# EAGLE library part 7-5530843-0 (library 7-5530843-0)
Standard Edge II Series, Female Edge Conn, Mount, 31(Dual)Way, 2 Row, 2.54mm Pitch
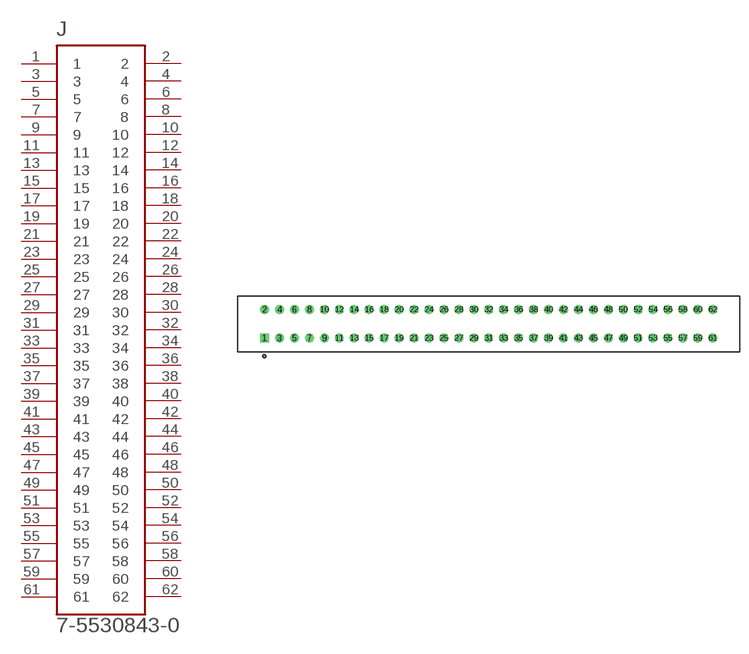
[diagram p0: symbol with the pads of TE_7-5530843-0; footprint TE_7-5530843-0]

Designator prefix J

## 7-5530843-0 (Comment: 7-5530843-0)  [TE_7-5530843-0]
1  1  pas
2  2  pas
3  3  pas
4  4  pas
5  5  pas
6  6  pas
7  7  pas
8  8  pas
9  9  pas
10  10  pas
11  11  pas
12  12  pas
13  13  pas
14  14  pas
15  15  pas
16  16  pas
17  17  pas
18  18  pas
19  19  pas
20  20  pas
21  21  pas
22  22  pas
23  23  pas
24  24  pas
25  25  pas
26  26  pas
27  27  pas
28  28  pas
29  29  pas
30  30  pas
31  31  pas
32  32  pas
33  33  pas
34  34  pas
35  35  pas
36  36  pas
37  37  pas
38  38  pas
39  39  pas
40  40  pas
41  41  pas
42  42  pas
43  43  pas
44  44  pas
45  45  pas
46  46  pas
47  47  pas
48  48  pas
49  49  pas
50  50  pas
51  51  pas
52  52  pas
53  53  pas
54  54  pas
55  55  pas
56  56  pas
57  57  pas
58  58  pas
59  59  pas
60  60  pas
61  61  pas
62  62  pas

## Footprint TE_7-5530843-0 (pad centres in mm)
drill 1.016 square: 1 -38.1,-2.426
drill 1.016: 2 -38.1,2.426; 3 -35.56,-2.426; 4 -35.56,2.426; 5 -33.02,-2.426; 6 -33.02,2.426; 7 -30.48,-2.426; 8 -30.48,2.426; 9 -27.94,-2.426; 10 -27.94,2.426; 11 -25.4,-2.426; 12 -25.4,2.426; 13 -22.86,-2.426; 14 -22.86,2.426; 15 -20.32,-2.426; 16 -20.32,2.426; 17 -17.78,-2.426; 18 -17.78,2.426; 19 -15.24,-2.426; 20 -15.24,2.426; 21 -12.7,-2.426; 22 -12.7,2.426; 23 -10.16,-2.426; 24 -10.16,2.426; 25 -7.62,-2.426; 26 -7.62,2.426; 27 -5.08,-2.426; 28 -5.08,2.426; 29 -2.54,-2.426; 30 -2.54,2.426; 31 0,-2.426; 32 0,2.426; 33 2.54,-2.426; 34 2.54,2.426; 35 5.08,-2.426; 36 5.08,2.426; 37 7.62,-2.426; 38 7.62,2.426; 39 10.16,-2.426; 40 10.16,2.426; 41 12.7,-2.426; 42 12.7,2.426; 43 15.24,-2.426; 44 15.24,2.426; 45 17.78,-2.426; 46 17.78,2.426; 47 20.32,-2.426; 48 20.32,2.426; 49 22.86,-2.426; 50 22.86,2.426; 51 25.4,-2.426; 52 25.4,2.426; 53 27.94,-2.426; 54 27.94,2.426; 55 30.48,-2.426; 56 30.48,2.426; 57 33.02,-2.426; 58 33.02,2.426; 59 35.56,-2.426; 60 35.56,2.426; 61 38.1,-2.426; 62 38.1,2.426